# EAGLE library part 2P4T (library switches)
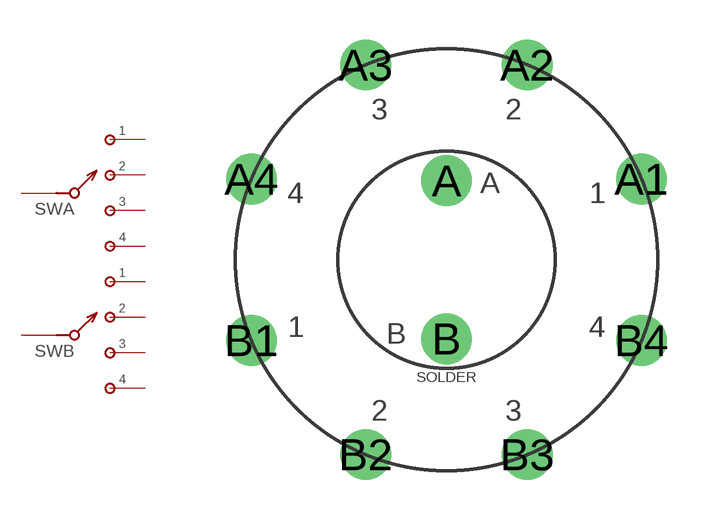
[diagram p6: symbol with the pads of 2P4T.MINI; footprint 2P4T.MINI]

Designator prefix SW; gates A=1P4T B=1P4T

## 2P4TMINIROTARY  [2P4T.MINI]
A  A:A
A1  A:1
A2  A:2
A3  A:3
A4  A:4
B  B:A
B1  B:1
B2  B:2
B3  B:3
B4  B:4

## Footprint 2P4T.MINI (pad centres in mm)
Mini http://smallbear-electronics.mybigcommerce.com/rotary-switch-miniature-2p4t/
drill 1.1 pad 1.93: A 0,3; A1 7.391,3.061; A2 3.061,7.391; A3 -3.061,7.391; A4 -7.391,3.061; B 0,-3; B1 -7.391,-3.061; B2 -3.061,-7.391; B3 3.061,-7.391; B4 7.391,-3.061